# EAGLE library part 28C64 (library ds_ic_memory)
64K (8K x 8) Parallel EEPROMs
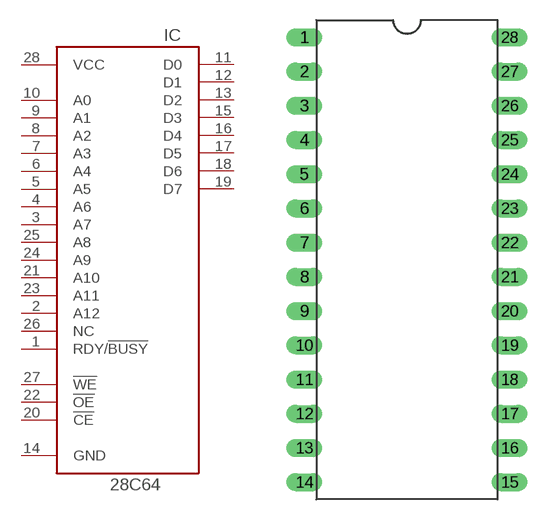
[diagram p3: symbol with the pads of DIP28; footprint DIP28]

Designator prefix IC

## 28C64 (DATASHEET: https://ww1.microchip.com/downloads/en/devicedoc/doc0001h.pdf; DESCRIPTION: 64K (8K x 8) Parallel EEPROMs; LCSC_PART: C41982; VALUE: AT28C64)  [DIP28]
1  RDY/!BUSY
2  A12
3  A7
4  A6
5  A5
6  A4
7  A3
8  A2
9  A1
10  A0
11  D0
12  D1
13  D2
14  GND
15  D3
16  D4
17  D5
18  D6
19  D7
20  !CE
21  A10
22  !OE
23  A11
24  A9
25  A8
26  NC  nc
27  !WE
28  VCC

## Footprint DIP28 (pad centres in mm)
drill 0.813 long: 1 -7.62,16.51; 2 -7.62,13.97; 3 -7.62,11.43; 4 -7.62,8.89; 5 -7.62,6.35; 6 -7.62,3.81; 7 -7.62,1.27; 8 -7.62,-1.27; 9 -7.62,-3.81; 10 -7.62,-6.35; 11 -7.62,-8.89; 12 -7.62,-11.43; 13 -7.62,-13.97; 14 -7.62,-16.51; 15 7.62,-16.51; 16 7.62,-13.97; 17 7.62,-11.43; 18 7.62,-8.89; 19 7.62,-6.35; 20 7.62,-3.81; 21 7.62,-1.27; 22 7.62,1.27; 23 7.62,3.81; 24 7.62,6.35; 25 7.62,8.89; 26 7.62,11.43; 27 7.62,13.97; 28 7.62,16.51